# Altium schematic symbol library Barun Gas Control.SchLib: 3 symbols
Pins are listed as number, name and electrical type; pins without a type are passive.

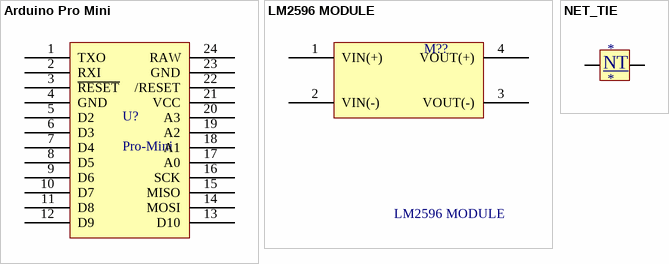
[diagram p0: symbols Arduino Pro Mini to NET_TIE]

## Arduino Pro Mini
designator U?, comment Pro-Mini
Arduino Pro Mini
pins: 1 TXO, 2 RXI, 3 ~{RESET}, 4 GND, 5 D2, 6 D3, 7 D4, 8 D5, 9 D6, 10 D7, 11 D8, 12 D9, 13 D10, 14 MOSI, 15 MISO, 16 SCK, 17 A0, 18 A1, 19 A2, 20 A3, 21 VCC, 22 /RESET, 23 GND, 24 RAW

## LM2596 MODULE
designator M??
footprint LM2596 Module
pins: 1 VIN(+), 2 VIN(-), 3 VOUT(-), 4 VOUT(+)

## NET_TIE
designator *
footprint NET_TIE
pins: 1, 2
text: NT